# EAGLE library part SAR (library ++HFModule)
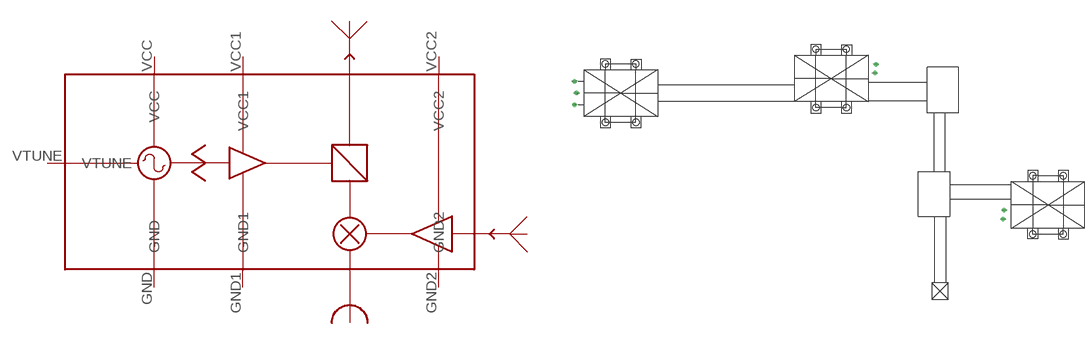
[diagram p0: symbol with the pads of SAR; footprint SAR]

Designator prefix -

## SAR  [SAR]
GND  GND  pwr
GND1  GND1  pwr
GND2  GND2  pwr
VCC  VCC  pwr
VCC1  VCC1  pwr
VCC2  VCC2  pwr
VTUNE  VTUNE  in

## Footprint SAR (pad centres in mm)
drill 0.7 pad 1.93: GND -11.99,-16.26; GND1 115.24,-7.74; GND2 170.26,-66.26; VCC -12.99,-11.26; VCC1 115.74,-3.99; VCC2 169.76,-70.01; VTUNE -12.99,-21.26
hole 2.7 at 0.24,-3.78
hole 2.7 at 13.24,-3.78
hole 2.7 at 13.26,-28.72
hole 2.7 at 0.26,-28.72
hole 2.7 at 90.01,-22.47
hole 2.7 at 89.99,2.47
hole 2.7 at 102.99,2.47
hole 2.7 at 103.01,-22.47
hole 2.7 at 90.01,-22.47
hole 2.7 at 195.49,-51.53
hole 2.7 at 195.51,-76.47
hole 2.7 at 182.51,-76.47
hole 2.7 at 182.49,-51.53
hole 2.7 at 195.49,-51.53
hole 2.7 at 195.49,-51.53
hole 2.7 at 195.51,-76.47
hole 2.7 at 182.51,-76.47
hole 2.7 at 182.49,-51.53
hole 2.7 at 195.49,-51.53